# EAGLE library part 65*22 (library commodore)
MOS TECHNOLOGY 6522 VERSATILE INTERFACE ADAPTER (VIA) Information taken from 6522 datasheet (nov '77) I/O device: two 8-bits ports, handshake lines, timers.
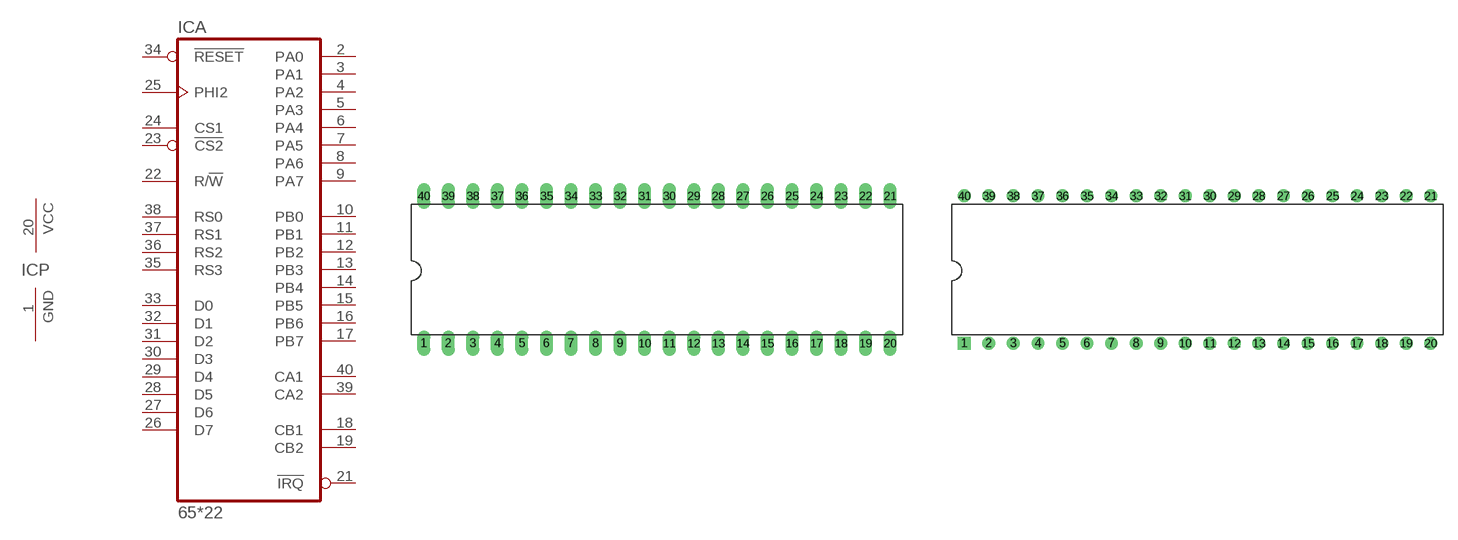
[diagram p17: symbol with the pads of DIL40; footprints DIL40, DIL40-ROUNDPAD]

Designator prefix IC; gates A=6522 P=PWR-GND

## 6522P, 65C22P  [DIL40]
1  P:GND  pwr
2  A:PA0
3  A:PA1
4  A:PA2
5  A:PA3
6  A:PA4
7  A:PA5
8  A:PA6
9  A:PA7
10  A:PB0
11  A:PB1
12  A:PB2
13  A:PB3
14  A:PB4
15  A:PB5
16  A:PB6
17  A:PB7
18  A:CB1  in
19  A:CB2
20  P:VCC  pwr
21  A:!IRQ  oc
22  A:R/!W  in
23  A:!CS2  in
24  A:CS1  in
25  A:PHI2  in
26  A:D7
27  A:D6
28  A:D5
29  A:D4
30  A:D3
31  A:D2
32  A:D1
33  A:D0
34  A:!RESET  in
35  A:RS3  in
36  A:RS2  in
37  A:RS1  in
38  A:RS0  in
39  A:CA2
40  A:CA1  in

## 6522P-R  [DIL40-ROUNDPAD]
Pads as for DIL40

## 6522PL  [PLCC44]
1  P:GND  pwr
2  A:PA0
3  A:PA1
4  A:PA2
5  A:PA3
6  A:PA4
7  A:PA5
8  A:PA6
9  A:PA7
10  A:PB0
12  A:PB1
13  A:PB2
14  A:PB3
15  A:PB4
16  A:PB5
17  A:PB6
18  A:PB7
19  A:CB1  in
20  A:CB2
21  P:VCC  pwr
23  A:!IRQ  oc
24  A:R/!W  in
25  A:!CS2  in
26  A:CS1  in
27  A:PHI2  in
28  A:D7
29  A:D6
30  A:D5
31  A:D4
32  A:D3
34  A:D2
35  A:D1
36  A:D0
37  A:!RESET  in
39  A:RS3  in
40  A:RS2  in
41  A:RS1  in
42  A:RS0  in
43  A:CA2
44  A:CA1  in

## 6522P-RO  [DIL40-ROUNDPAD-OVERSIZE]
Pads as for DIL40

## 6522P-ST  [DIL40-SMD]
Pads as for DIL40

## 6522P-SB  [DIL40-SMD-REVERSE]
Pads as for DIL40

## Footprint DIL40 (pad centres in mm)
Dual In Line Package
drill 0.813 long: 1 -24.13,-7.62; 2 -21.59,-7.62; 3 -19.05,-7.62; 4 -16.51,-7.62; 5 -13.97,-7.62; 6 -11.43,-7.62; 7 -8.89,-7.62; 8 -6.35,-7.62; 9 -3.81,-7.62; 10 -1.27,-7.62; 11 1.27,-7.62; 12 3.81,-7.62; 13 6.35,-7.62; 14 8.89,-7.62; 15 11.43,-7.62; 16 13.97,-7.62; 17 16.51,-7.62; 18 19.05,-7.62; 19 21.59,-7.62; 20 24.13,-7.62; 21 24.13,7.62; 22 21.59,7.62; 23 19.05,7.62; 24 16.51,7.62; 25 13.97,7.62; 26 11.43,7.62; 27 8.89,7.62; 28 6.35,7.62; 29 3.81,7.62; 30 1.27,7.62; 31 -1.27,7.62; 32 -3.81,7.62; 33 -6.35,7.62; 34 -8.89,7.62; 35 -11.43,7.62; 36 -13.97,7.62; 37 -16.51,7.62; 38 -19.05,7.62; 39 -21.59,7.62; 40 -24.13,7.62

## Footprint DIL40-ROUNDPAD (pad centres in mm)
Dual In Line Package
drill 0.813 square: 1 -24.13,-7.62
drill 0.813: 2 -21.59,-7.62; 3 -19.05,-7.62; 4 -16.51,-7.62; 5 -13.97,-7.62; 6 -11.43,-7.62; 7 -8.89,-7.62; 8 -6.35,-7.62; 9 -3.81,-7.62; 10 -1.27,-7.62; 11 1.27,-7.62; 12 3.81,-7.62; 13 6.35,-7.62; 14 8.89,-7.62; 15 11.43,-7.62; 16 13.97,-7.62; 17 16.51,-7.62; 18 19.05,-7.62; 19 21.59,-7.62; 20 24.13,-7.62; 21 24.13,7.62; 22 21.59,7.62; 23 19.05,7.62; 24 16.51,7.62; 25 13.97,7.62; 26 11.43,7.62; 27 8.89,7.62; 28 6.35,7.62; 29 3.81,7.62; 30 1.27,7.62; 31 -1.27,7.62; 32 -3.81,7.62; 33 -6.35,7.62; 34 -8.89,7.62; 35 -11.43,7.62; 36 -13.97,7.62; 37 -16.51,7.62; 38 -19.05,7.62; 39 -21.59,7.62; 40 -24.13,7.62

## Footprint PLCC44 (pad centres in mm)
Plastic Leaded Chip Carrier
smd 0.6 x 2.2: 1 0,8.1; 2 -1.27,8.1; 3 -2.54,8.1; 4 -3.81,8.1; 5 -5.08,8.1; 6 -6.35,8.1; 18 -6.35,-8.1; 19 -5.08,-8.1; 20 -3.81,-8.1; 21 -2.54,-8.1; 22 -1.27,-8.1; 23 0,-8.1; 24 1.27,-8.1; 25 2.54,-8.1; 26 3.81,-8.1; 27 5.08,-8.1; 28 6.35,-8.1; 40 6.35,8.1; 41 5.08,8.1; 42 3.81,8.1; 43 2.54,8.1; 44 1.27,8.1
smd 2.2 x 0.6: 7 -8.1,6.35; 8 -8.1,5.08; 9 -8.1,3.81; 10 -8.1,2.54; 11 -8.1,1.27; 12 -8.1,0; 13 -8.1,-1.27; 14 -8.1,-2.54; 15 -8.1,-3.81; 16 -8.1,-5.08; 17 -8.1,-6.35; 29 8.1,-6.35; 30 8.1,-5.08; 31 8.1,-3.81; 32 8.1,-2.54; 33 8.1,-1.27; 34 8.1,0; 35 8.1,1.27; 36 8.1,2.54; 37 8.1,3.81; 38 8.1,5.08; 39 8.1,6.35

## Footprint DIL40-ROUNDPAD-OVERSIZE (pad centres in mm)
Dual In Line Package
drill 1.448 square: 1 -24.13,-7.62
drill 1.448: 2 -21.59,-7.62; 3 -19.05,-7.62; 4 -16.51,-7.62; 5 -13.97,-7.62; 6 -11.43,-7.62; 7 -8.89,-7.62; 8 -6.35,-7.62; 9 -3.81,-7.62; 10 -1.27,-7.62; 11 1.27,-7.62; 12 3.81,-7.62; 13 6.35,-7.62; 14 8.89,-7.62; 15 11.43,-7.62; 16 13.97,-7.62; 17 16.51,-7.62; 18 19.05,-7.62; 19 21.59,-7.62; 20 24.13,-7.62; 21 24.13,7.62; 22 21.59,7.62; 23 19.05,7.62; 24 16.51,7.62; 25 13.97,7.62; 26 11.43,7.62; 27 8.89,7.62; 28 6.35,7.62; 29 3.81,7.62; 30 1.27,7.62; 31 -1.27,7.62; 32 -3.81,7.62; 33 -6.35,7.62; 34 -8.89,7.62; 35 -11.43,7.62; 36 -13.97,7.62; 37 -16.51,7.62; 38 -19.05,7.62; 39 -21.59,7.62; 40 -24.13,7.62

## Footprint DIL40-SMD (pad centres in mm)
smd 1 x 3.5: 1 -24.13,-8.92; 2 -21.59,-8.92; 3 -19.05,-8.92; 4 -16.51,-8.92; 5 -13.97,-8.92; 6 -11.43,-8.92; 7 -8.89,-8.92; 8 -6.35,-8.92; 9 -3.81,-8.92; 10 -1.27,-8.92; 11 1.27,-8.92; 12 3.81,-8.92; 13 6.35,-8.92; 14 8.89,-8.92; 15 11.43,-8.92; 16 13.97,-8.92; 17 16.51,-8.92; 18 19.05,-8.92; 19 21.59,-8.92; 20 24.13,-8.92; 21 24.13,8.92; 22 21.59,8.92; 23 19.05,8.92; 24 16.51,8.92; 25 13.97,8.92; 26 11.43,8.92; 27 8.89,8.92; 28 6.35,8.92; 29 3.81,8.92; 30 1.27,8.92; 31 -1.27,8.92; 32 -3.81,8.92; 33 -6.35,8.92; 34 -8.89,8.92; 35 -11.43,8.92; 36 -13.97,8.92; 37 -16.51,8.92; 38 -19.05,8.92; 39 -21.59,8.92; 40 -24.13,8.92

## Footprint DIL40-SMD-REVERSE (pad centres in mm)
smd 1 x 3.5 bottom: 1 -24.13,-8.92; 2 -21.59,-8.92; 3 -19.05,-8.92; 4 -16.51,-8.92; 5 -13.97,-8.92; 6 -11.43,-8.92; 7 -8.89,-8.92; 8 -6.35,-8.92; 9 -3.81,-8.92; 10 -1.27,-8.92; 11 1.27,-8.92; 12 3.81,-8.92; 13 6.35,-8.92; 14 8.89,-8.92; 15 11.43,-8.92; 16 13.97,-8.92; 17 16.51,-8.92; 18 19.05,-8.92; 19 21.59,-8.92; 20 24.13,-8.92; 21 24.13,8.92; 22 21.59,8.92; 23 19.05,8.92; 24 16.51,8.92; 25 13.97,8.92; 26 11.43,8.92; 27 8.89,8.92; 28 6.35,8.92; 29 3.81,8.92; 30 1.27,8.92; 31 -1.27,8.92; 32 -3.81,8.92; 33 -6.35,8.92; 34 -8.89,8.92; 35 -11.43,8.92; 36 -13.97,8.92; 37 -16.51,8.92; 38 -19.05,8.92; 39 -21.59,8.92; 40 -24.13,8.92